# Altium integrated library Analog_ADC.IntLib: 3 symbols
Pins are listed as number, name and electrical type; pins without a type are passive.

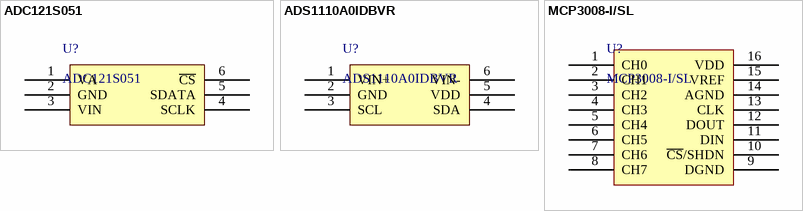
[diagram p0: symbols ADC121S051 to MCP3008-I/SL]

## ADC121S051
designator U?
ADC121S051 Single Channel, 200 to 500 ksps, 12-Bit A/D Converter
footprint SOT-23-6 (SOT23, 6-Leads, Body 2.90x2.80mm, Pitch 0.95mm, IPC Medium Density)
pins: 1 VA, 2 GND, 3 VIN, 4 SCLK, 5 SDATA, 6 ~{CS}

## ADS1110A0IDBVR
designator U?
16-Bit ANALOG-TO-DIGITAL CONVERTER with Onboard Reference
footprint SOT-23-6 (SOT23, 6-Leads, Body 2.90x2.80mm, Pitch 0.95mm, IPC Medium Density)
pins: 1 VIN+, 2 GND, 3 SCL, 4 SDA, 5 VDD, 6 VIN-

## MCP3008-I/SL
designator U?
2.7V 4-Channel/8-Channel 10-Bit A/D Converters / with SPI Serial Interface
footprint SO-16_3.9mm_P1.27mm (SOIC, 16-Leads, Body 9.90x3.90mm, Pitch 1.27mm, IPC Medium Density)
pins: 1 CH0, 2 CH1, 3 CH2, 4 CH3, 5 CH4, 6 CH5, 7 CH6, 8 CH7, 9 DGND, 10 ~{CS}/SHDN, 11 DIN, 12 DOUT, 13 CLK, 14 AGND, 15 VREF, 16 VDD